# Altium schematic symbol library sat.SchLib: 6 symbols
Pins are listed as number, name and electrical type; pins without a type are passive.

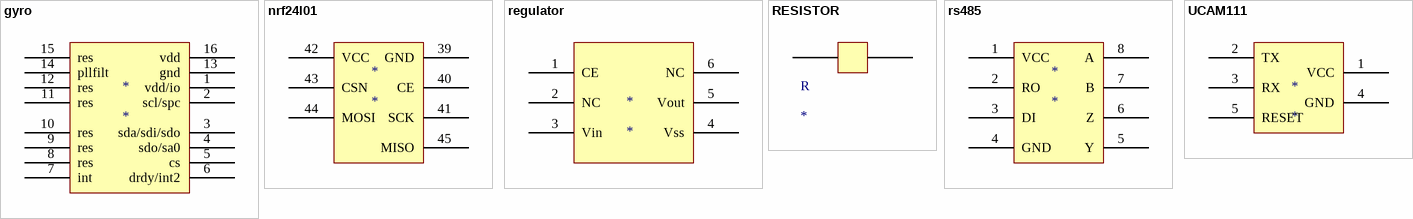
[diagram p0: symbols gyro to UCAM111]

## gyro
designator *
footprint PQFN65P400X400X110N
footprint Model Name (Model Description)
pins: 1 vdd/io, 2 scl/spc, 3 sda/sdi/sdo, 4 sdo/sa0, 5 cs, 6 drdy/int2, 7 int, 8 res, 9 res, 10 res, 11 res, 12 res, 13 gnd, 14 pllfilt, 15 res, 16 vdd

## nrf24l01
designator *
pins: 39 GND, 40 CE, 41 SCK, 42 VCC, 43 CSN, 44 MOSI, 45 MISO

## regulator
designator *
footprint IC_XC8107AC20MR-G
pins: 1 CE, 2 NC, 3 Vin, 4 Vss, 5 Vout, 6 NC

## RESISTOR
designator R
footprint CAPC2012X95N
pins: 1 37, 2 38

## rs485
designator *
footprint SOIC127P600X175-8N
pins: 1 VCC, 2 RO, 3 DI, 4 GND, 5 Y, 6 Z, 7 B, 8 A

## UCAM111
designator *
footprint 61300211121
pins: 1 VCC, 2 TX, 3 RX, 4 GND, 5 RESET